# Altium footprint library SmartHalo_Footprints.PcbLib: 114 footprints (part 3 of 8)
Each footprint in its own frame and in the unit in brackets; x right, y up, seen from the top. Pads: shape width x height; smd on the part's side, far side on the other; paste and mask are expansions set on the pad; w line width, h text height; cw(c..) or ccw(c..) is an arc to the next point about the centre after c.
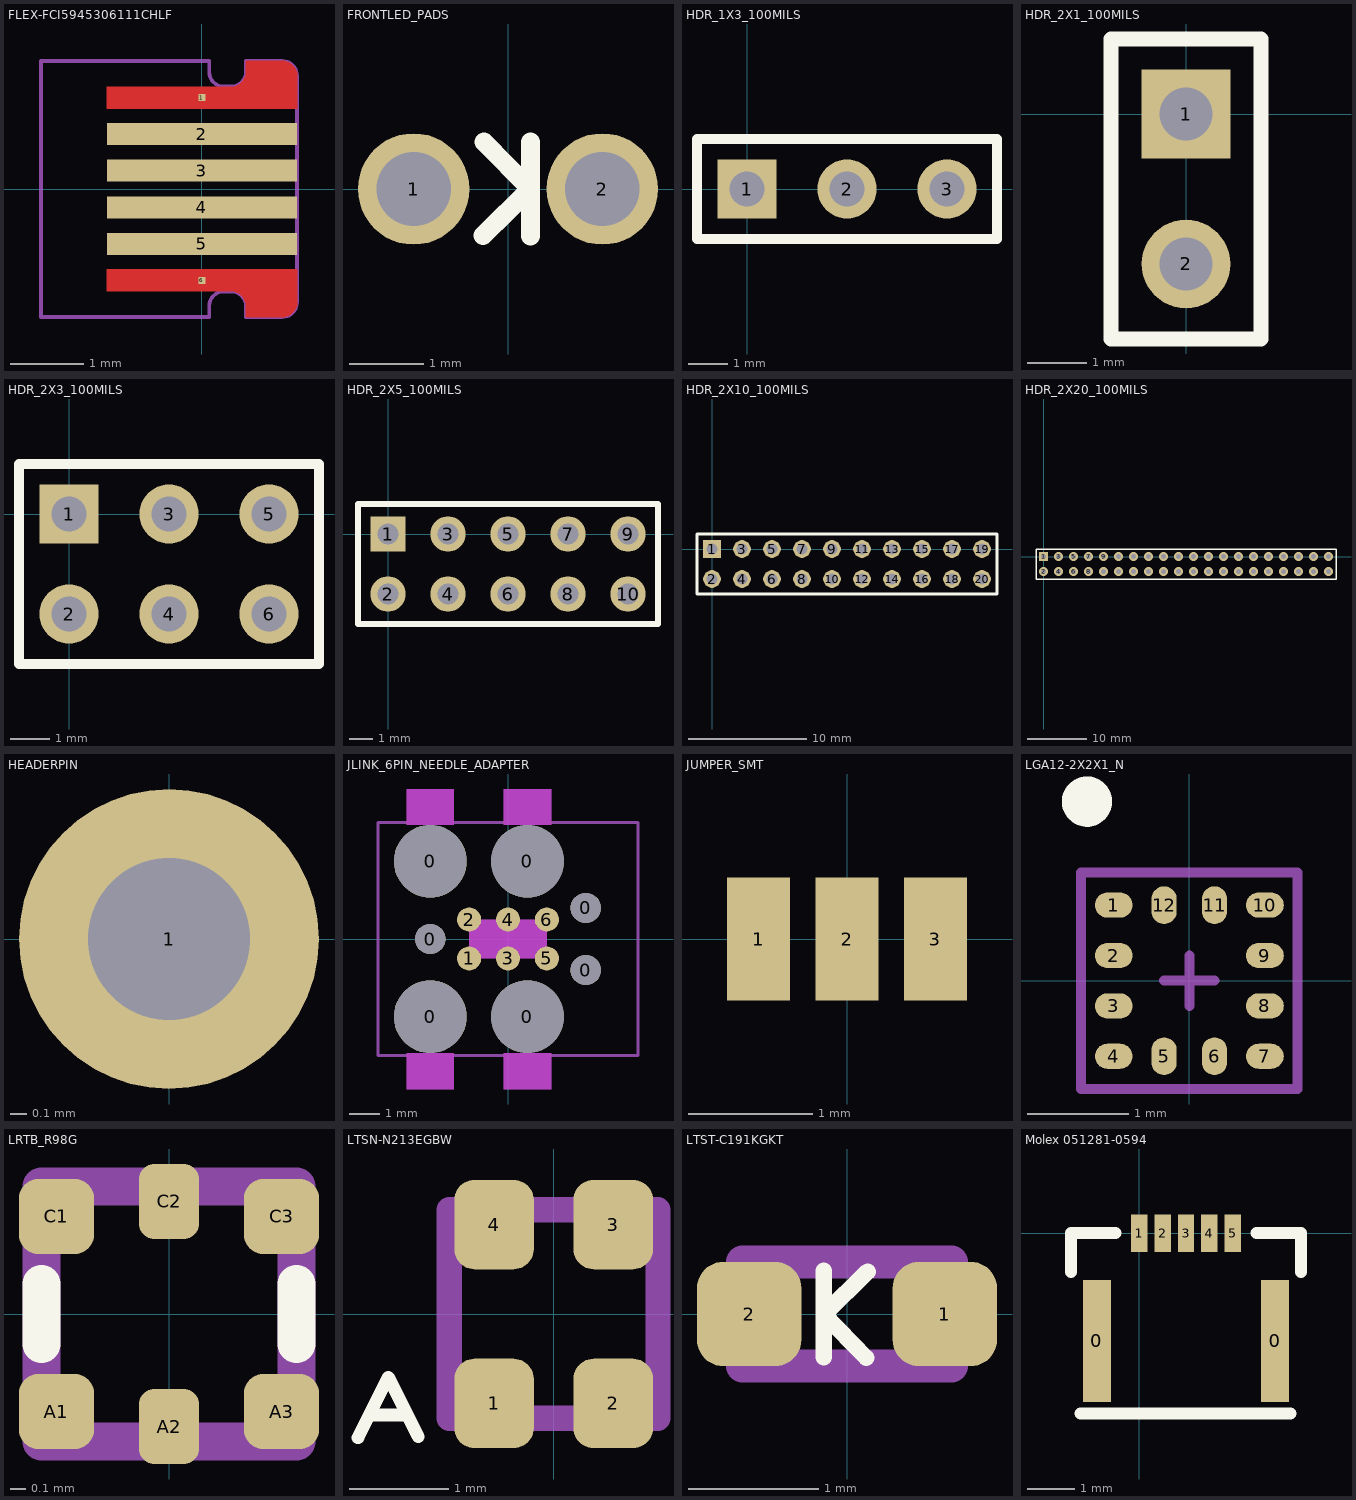
[diagram p2: the footprints below, top view; thin cyan lines are the x and y axes]

## FLEX-FCI5945306111CHLF [mm] "Flex male connector for FCI59453-06111CHLF socket, 6 pins, 2.6 x 0.3 mm pads, 0.5 mm pitch"
pads (6):
  rect 0.1x0.1 smd paste-0.1 mask-0.1: 1(0,1.25) 6(0,-1.25)
  rect 2.6x0.3 smd paste-0.3 mask+0.051: 2(0,0.75) 3(0,0.25) 4(0,-0.25) 5(0,-0.75)
Top Layer:
  region: -1.3,-1.4 0.4,-1.4 0.439,-1.404 0.511,-1.434 0.566,-1.489 0.596,-1.561 0.6,-1.6 0.6,-1.75 1.1,-1.75 1.14,-1.75 1.213,-1.72 1.27,-1.663 1.3,-1.59 1.3,-1.55 1.3,-1.1 -1.3,-1.1
  region: -1.3,1.4 0.4,1.4 0.439,1.404 0.511,1.434 0.566,1.489 0.596,1.561 0.6,1.6 0.6,1.75 1.1,1.75 1.14,1.75 1.213,1.72 1.27,1.663 1.3,1.59 1.3,1.55 1.3,1.1 -1.3,1.1
Mechanical 3:
  lines w0.05: -2.2,-1.75 -2.2,1.75 0.1,1.75 0.1,1.6 ccw(c0.3,1.6) 0.3,1.4 0.4,1.4 ccw(c0.4,1.6) 0.6,1.6 0.6,1.75 1.1,1.75 cw(c1.1,1.55) 1.3,1.55 1.3,-1.55 cw(c1.1,-1.55) 1.1,-1.75 0.6,-1.75 0.6,-1.6 ccw(c0.4,-1.6) 0.4,-1.4 0.3,-1.4 ccw(c0.3,-1.6) 0.1,-1.6 0.1,-1.75 -2.2,-1.75
3D Top:
  lines w0.05: -2.2,-1.75 -2.2,1.75 0.1,1.75 0.1,1.6 ccw(c0.3,1.6) 0.3,1.4 0.4,1.4 ccw(c0.4,1.6) 0.6,1.6 0.6,1.75 1.1,1.75 cw(c1.1,1.55) 1.3,1.55 1.3,-1.55 cw(c1.1,-1.55) 1.1,-1.75 0.6,-1.75 0.6,-1.6 ccw(c0.4,-1.6) 0.4,-1.4 0.3,-1.4 ccw(c0.3,-1.6) 0.1,-1.6 0.1,-1.75 -2.2,-1.75
3D body: height 0.2, standoff 0, extent -2.2,-1.75 1.3,1.75

## FRONTLED_PADS [mm] "Front Led pads"
pads (2):
  round 1.5 hole 1: 1(-1.27,0) 2(1.27,0)
Top Overlay:
  lines w0.254: -0.335,-0.625 0.3,0 -0.325,0.635 ; 0.305,-0.635 0.305,0.635

## HDR_1X3_100MILS [mm] "Header 100 mils, 1 row, 3 pins. 0.9mm hole, 1.5 mm side"
pads (3):
  rect 1.5x1.5 hole 0.9: 1(0,0)
  round 1.5 hole 0.9: 2(2.54,0) 3(5.08,0)
Top Overlay:
  lines w0.254: -1.27,-1.27 6.35,-1.27 6.35,1.27 -1.27,1.27 -1.27,-1.27

## HDR_2X1_100MILS [mm] "Header 100 mils, 2 rows, 2 pins. 0.9mm hole, 1.5 mm side"
pads (2):
  rect 1.5x1.5 hole 0.9: 1(0,0)
  round 1.5 hole 0.9: 2(0,-2.54)
Top Overlay:
  lines w0.254: -1.27,-3.81 -1.27,1.27 1.27,1.27 1.27,-3.81 -1.27,-3.81

## HDR_2X3_100MILS [mm] "Header 100 mils, 2 rows, 6 pins. 0.9mm hole, 1.5 mm side"
pads (6):
  rect 1.5x1.5 hole 0.9: 1(0,0)
  round 1.5 hole 0.9: 2(0,-2.54) 3(2.54,0) 4(2.54,-2.54) 5(5.08,0) 6(5.08,-2.54)
Top Overlay:
  lines w0.254: -1.27,-3.81 -1.27,1.27 6.35,1.27 6.35,-3.81 -1.27,-3.81

## HDR_2X5_100MILS [mm] "Header 100 mils, 2 rows, 10 pins. 0.9mm hole, 1.5 mm side"
pads (10):
  rect 1.5x1.5 hole 0.9: 1(0,0)
  round 1.5 hole 0.9: 2(0,-2.54) 3(2.54,0) 4(2.54,-2.54) 5(5.08,0) 6(5.08,-2.54) 7(7.62,0) 8(7.62,-2.54) 9(10.16,0) 10(10.16,-2.54)
Top Overlay:
  lines w0.254: -1.27,-3.81 11.43,-3.81 11.43,1.27 -1.27,1.27 -1.27,-3.81

## HDR_2X10_100MILS [mm] "Header 100 mils, 2 rows, 20 pins. 0.9mm hole, 1.5 mm side"
pads (20):
  rect 1.5x1.5 hole 0.9: 1(0,0)
  round 1.5 hole 0.9: 2(0,-2.54) 3(2.54,0) 4(2.54,-2.54) 5(5.08,0) 6(5.08,-2.54) 7(7.62,0) 8(7.62,-2.54) 9(10.16,0) 10(10.16,-2.54) 11(12.7,0) 12(12.7,-2.54) 13(15.24,0) 14(15.24,-2.54) 15(17.78,0) 16(17.78,-2.54) 17(20.32,0) 18(20.32,-2.54) 19(22.86,0) 20(22.86,-2.54)
Top Overlay:
  lines w0.254: -1.27,-3.81 24.13,-3.81 24.13,1.27 -1.27,1.27 -1.27,-3.81

## HDR_2X20_100MILS [mm] "Header 100 mils, 2 rows, 40 pins. 0.9mm hole, 1.5 mm side"
pads (40):
  rect 1.5x1.5 hole 0.9: 1(0,0)
  round 1.5 hole 0.9: 2(0,-2.54) 3(2.54,0) 4(2.54,-2.54) 5(5.08,0) 6(5.08,-2.54) 7(7.62,0) 8(7.62,-2.54) 9(10.16,0) 10(10.16,-2.54) 11(12.7,0) 12(12.7,-2.54) 13(15.24,0) 14(15.24,-2.54) 15(17.78,0) 16(17.78,-2.54) 17(20.32,0) 18(20.32,-2.54) 19(22.86,0) 20(22.86,-2.54) 21(25.4,0) 22(25.4,-2.54) 23(27.94,0) 24(27.94,-2.54) 25(30.48,0) 26(30.48,-2.54) 27(33.02,0) 28(33.02,-2.54) 29(35.56,0) 30(35.56,-2.54) 31(38.1,0) 32(38.1,-2.54) 33(40.64,0) 34(40.64,-2.54) 35(43.18,0) 36(43.18,-2.54) 37(45.72,0) 38(45.72,-2.54) 39(48.26,0) 40(48.26,-2.54)
Top Overlay:
  lines w0.254: -1.27,-3.81 49.53,-3.81 49.53,1.27 -1.27,1.27 -1.27,-3.81

## HEADERPIN [mil] "HEADER PIN 40 mils hole"
pads (1):
  round 74 hole 40: 1(0,0)

## JLINK_6PIN_NEEDLE_ADAPTER [mil] "JLINK 6 PIN NEEDLE ADAPTER FOOTPRINT: Only for development (DNP)"
pads (13):
  round 93.5 hole 93.5 unplated paste-93.5: 0(-100,-100) 0(-100,100) 0(25,-100) 0(25,100)
  round 39 hole 39 unplated paste-39: 0(-100,0) 0(100,-40) 0(100,40)
  round 31 smd paste-31: 1(-50,-25) 2(-50,25) 3(0,-25) 4(0,25) 5(50,-25) 6(50,25)
Mechanical 3 keep-out:
  region: -50,-25 -50,25 50,25 50,-25
  region: -5.5,-193 55.5,-193 55.5,-147 -5.5,-147
  region: -130.5,-193 -69.5,-193 -69.5,-147 -130.5,-147
  region: -5.5,147 55.5,147 55.5,193 -5.5,193
  region: -130.5,147 -69.5,147 -69.5,193 -130.5,193
3D Top:
  lines w3.94: -167.5,-150 -167.5,150 167.5,150 167.5,-150 -167.5,-150

## JUMPER_SMT [mil] "JUMPER SMT"
pads (3):
  rect 20x39 smd paste-20: 1(-28,0) 2(0,0) 3(28,0)

## LGA12-2X2X1_N [mm] "PQFN, 12-Leads, Body 2x2mm, Pitch 0.5mm, IPC Medium Density"
height 1
pads (12):
  oval 0.375x0.25 smd mask+0: 1(-0.75,0.75) 2(-0.75,0.25) 3(-0.75,-0.25) 4(-0.75,-0.75) 7(0.75,-0.75) 8(0.75,-0.25) 9(0.75,0.25) 10(0.75,0.75)
  oval 0.25x0.375 smd mask+0: 5(-0.25,-0.75) 6(0.25,-0.75) 11(0.25,0.75) 12(-0.25,0.75)
Top Overlay:
  circle w0.25: c-1.016,1.778 r0.125
3D Top:
  lines w0.1: -1.075,-1.075 1.075,-1.075 1.075,1.075 -1.075,1.075 -1.075,-1.075
Courtyard Top:
  lines w0.1: -0.25,0 0.25,0 ; 0,-0.25 0,0.25
3D body: height 1, standoff 0, extent -1.143,-1.143 1.143,1.143

## LRTB_R98G [mm] "OSRAM LRTB R98G IC LED, 1.7 x 1.7 x 1 mm, SMT6"
height 1
pads (6):
  rrect50% 0.5x0.5 smd: A1(-0.75,-0.65) A3(0.75,-0.65) C1(-0.75,0.65) C3(0.75,0.65)
  rrect50% 0.4x0.5 smd: A2(0,-0.75) C2(0,0.75)
Top Overlay:
  lines w0.254: -0.85,-0.2 -0.85,0.2 ; 0.85,-0.2 0.85,0.2
3D Top:
  lines w0.254: -0.85,-0.85 -0.85,0.85 0.85,0.85 0.85,-0.85 -0.85,-0.85
3D body: height 1, standoff 0, extent -0.85,-0.85 0.85,0.85

## LTSN-N213EGBW [mm] "SMD LED LiteOn LTSN-N213EGBW, 2.1 x 2.1 mm, 1.2 x 1.8mm pitch"
height 1
pads (4):
  rrect50% 0.8x0.9 smd: 1(-0.6,-0.9) 2(0.6,-0.9) 3(0.6,0.9) 4(-0.6,0.9)
Top Overlay:
  lines w0.127: -1.968,-1.245 -1.664,-0.635 -1.364,-1.234 ; -1.854,-1.016 -1.473,-1.016
3D Top:
  lines w0.254: -1.05,-1.05 -1.05,1.05 1.05,1.05 1.05,-1.05 -1.05,-1.05
3D body: height 1, standoff 0, extent -1.05,-1.05 1.05,1.05

## LTST-C191KGKT [mm] "SMD LED, 0.80 x 1.6 x 0.55 mm body, 0.8 x 0.8 mm pads, 1.5 mm pitch"
height 0.55
pads (2):
  rrect50% 0.8x0.8 smd mask+0: 1(0.75,0) 2(-0.75,0)
Top Overlay:
  lines w0.127: -0.178,-0.33 -0.178,0.33 ; -0.178,-0.005 0.148,-0.335 ; -0.173,0 0.158,0.325
3D Top:
  lines w0.254: -0.8,-0.4 -0.8,0.4 0.8,0.4 0.8,-0.4 -0.8,-0.4
3D body: height 0.55, standoff 0, extent -0.8,-0.4 0.8,0.4

## Molex 051281-0594 [mm]
pads (7):
  rect 0.6x2.6 smd mask+0: 0(-0.9,-2.3) 0(2.9,-2.3)
  rect 0.35x0.8 smd mask+0: 1(0,0) 2(0.5,0) 3(1,0) 4(1.5,0) 5(2,0)
Top Overlay:
  lines w0.254: -1.45,-0.825 -1.45,0 -0.5,0 ; -1.25,-3.85 3.225,-3.85 ; 2.5,0 3.45,0 3.45,-0.825
3D body: height 2.05, standoff 0, extent -1.45,-3.85 3.45,0